# Altium footprint library ESP32-C3-WROOM-02-H4.PcbLib: 1 footprints
Each footprint in its own frame and in the unit in brackets; x right, y up, seen from the top. Pads: shape width x height; smd on the part's side, far side on the other; paste and mask are expansions set on the pad; w line width, h text height; cw(c..) or ccw(c..) is an arc to the next point about the centre after c.
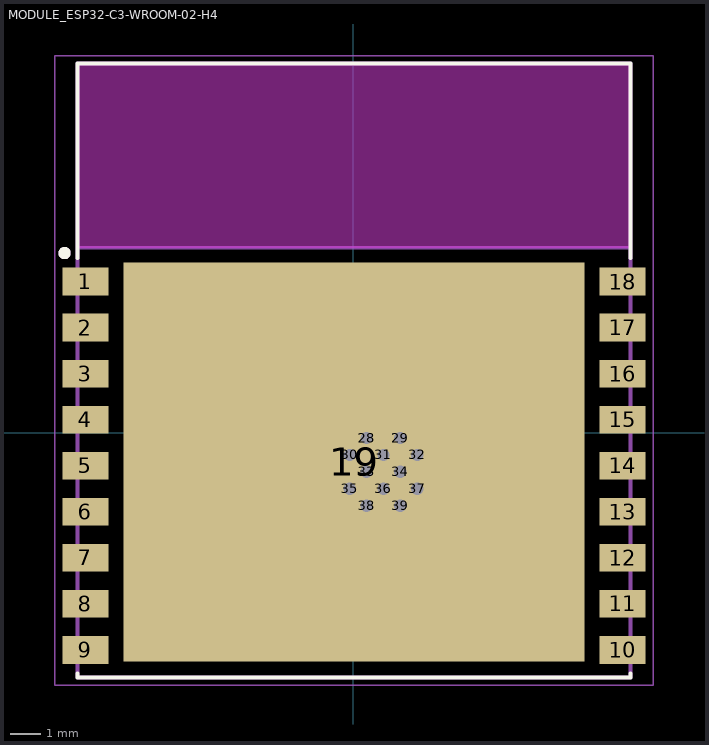
[diagram p0: the footprint, top view; thin cyan lines are the x and y axes]

## MODULE_ESP32-C3-WROOM-02-H4 [mm]
pads (31):
  rect 1.5x0.9 smd: 1(-8.725,4.925) 2(-8.725,3.425) 3(-8.725,1.925) 4(-8.725,0.425) 5(-8.725,-1.075) 6(-8.725,-2.575) 7(-8.725,-4.075) 8(-8.725,-5.575) 9(-8.725,-7.075) 10(8.775,-7.075) 11(8.775,-5.575) 12(8.775,-4.075) 13(8.775,-2.575) 14(8.775,-1.075) 15(8.775,0.425) 16(8.775,1.925) 17(8.775,3.425) 18(8.775,4.925)
  rect 15x13 smd: 19(0.025,-0.95)
  round 0.7 hole 0.4 mask+0: 28(0.435,-0.175) 29(1.535,-0.175) 30(-0.115,-0.725) 31(0.985,-0.725) 32(2.085,-0.725) 33(0.435,-1.275) 34(1.535,-1.275) 35(-0.115,-1.825) 36(0.985,-1.825) 37(2.085,-1.825) 38(0.435,-2.375) 39(1.535,-2.375)
Top Overlay:
  circle w0.2: c-9.4,5.85 r0.1
  lines w0.127: -8.975,-7.845 -8.975,-7.975 9.025,-7.975 9.025,-7.845 ; -8.975,5.695 -8.975,12.025 9.025,12.025 9.025,5.695
Keep-Out Layer:
  region: 9.025,6.025 -8.975,6.025 -8.975,12.025 9.025,12.025
  region: 9.025,6.025 -8.975,6.025 -8.975,12.025 9.025,12.025
Mechanical 13:
  circle w0.2: c-9.4,5.85 r0.1
  lines w0.127: -8.975,6.025 -8.975,12.025 9.025,12.025 9.025,6.025 ; -8.975,6.025 -8.975,-7.975 9.025,-7.975 9.025,6.025 ; -8.975,6.025 9.025,6.025
Mechanical 15:
  lines w0.05: -9.725,-8.225 -9.725,12.275 9.775,12.275 9.775,-8.225 -9.725,-8.225
3D body "step_temp.STEP": height 3.35, standoff 0, extent -8.975,-10.475 9.025,9.525